# Altium integrated library EEUFC1V101.IntLib: 1 symbol
Pins are listed as number, name and electrical type; pins without a type are passive.

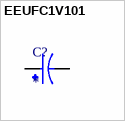
[diagram p0: symbol EEUFC1V101]

## EEUFC1V101
designator C?
EEU-FC1V101 - Panasonic Electrolytic Capacitor, 35V, 100uF, Radial 8x11.5mm +105C; MP: EEUFC1V101; SnapEDA_Link: https://www.snapeda.com/parts/EEUFC1V101/Panasonic/view-part/566093/?ref=snap; Package: RADIAL-2 Panasonic; Check_prices: https://www.snapeda.com/parts/EEUFC1V101/Panasonic/view-part/566093/?ref=eda; Availability: In Stock; Price: None; MF: Panasonic; Value: *
footprint CAPPRD350W60D800H1150
pins: N, P